# Altium schematic symbol library UOMP_EEPROM.SchLib: 1 symbol
Pins are listed as number, name and electrical type; pins without a type are passive.

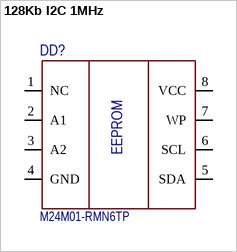
[diagram p0: symbol 128Kb I2C 1MHz]

## 128Kb I2C 1MHz
designator DD?, comment M24M01-RMN6TP
Code: 6339110311; Name: Микросхема M24M01-RMN6TP, ST
footprint IC: SOIC 8
pins: 1 NC, 2 A1, 3 A2, 4 GND, 5 SDA, 6 SCL, 7 WP, 8 VCC
text: EEPROM